# Altium footprint library SOT-223-3_L6.5-W3.4-P2.30-LS7.0-BR.PcbLib: 1 footprints
Each footprint in its own frame and in the unit in brackets; x right, y up, seen from the top. Pads: shape width x height; smd on the part's side, far side on the other; paste and mask are expansions set on the pad; w line width, h text height; cw(c..) or ccw(c..) is an arc to the next point about the centre after c.
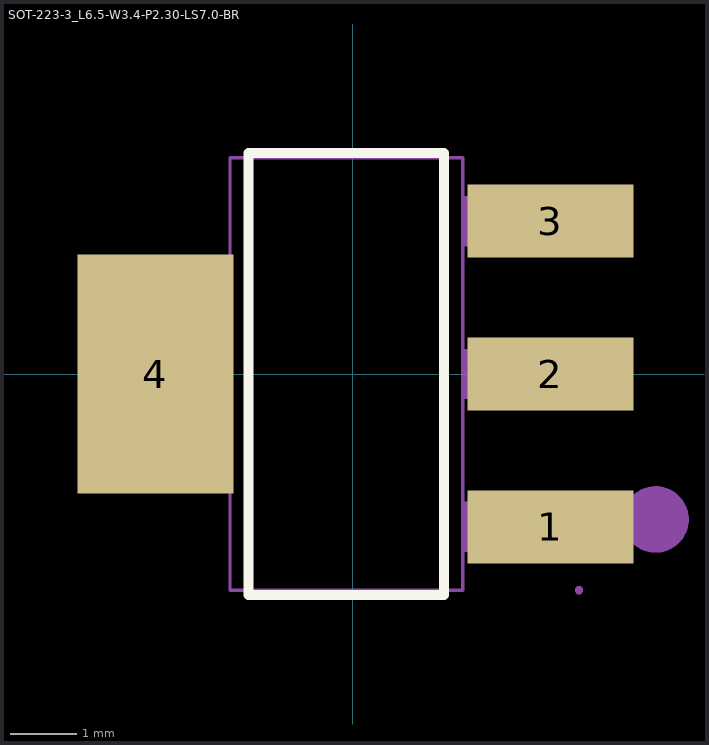
[diagram p0: the footprint, top view; thin cyan lines are the x and y axes]

## SOT-223-3_L6.5-W3.4-P2.30-LS7.0-BR [mm]
pads (4):
  rect 2.5x1.1 smd: 1(2.97,-2.3) 2(2.97,0) 3(2.97,2.3)
  rect 2.34x3.6 smd: 4(-2.97,0)
Top Overlay:
  lines w0.152: -1.571,-3.326 1.371,-3.326 1.371,3.326 -1.571,3.326 -1.571,-3.326
Mechanical 6:
  circle w0.5: c4.552,-2.188 r0.25
Mechanical 15:
  region: -3.6,-1.5 -3.6,1.5 -2.85,1.5 -2.85,-1.5
  region: -2.86,-1.5 -2.86,1.5 -1.84,1.5 -1.84,-1.5
  region: 2.65,-2.675 2.65,-1.925 3.4,-1.925 3.4,-2.675
  region: 1.64,-2.675 1.64,-1.925 2.66,-1.925 2.66,-2.675
  region: 2.65,-0.375 2.65,0.375 3.4,0.375 3.4,-0.375
  region: 1.64,-0.375 1.64,0.375 2.66,0.375 2.66,-0.375
  region: 2.65,1.925 2.65,2.675 3.4,2.675 3.4,1.925
  region: 1.64,1.925 1.64,2.675 2.66,2.675 2.66,1.925
  region: 3.46,-3.25 3.46,-3.275 3.425,-3.31 3.375,-3.31 3.34,-3.275 3.34,-3.25 3.34,-3.225 3.375,-3.19 3.425,-3.19 3.46,-3.225 3.46,-3.25
  lines w0.051: -1.85,-3.25 1.65,-3.25 1.65,3.25 -1.85,3.25 -1.85,-3.25